# Altium schematic symbol library ConverterMurata.SchLib: 1 symbol
Pins are listed as number, name and electrical type; pins without a type are passive.

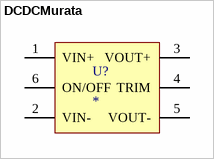
[diagram p0: symbol DCDCMurata]

## DCDCMurata
designator U?
Converter DC-DC Murata, high current; Digi-Key Part Number: 811-3139-1-ND
footprint DCDCMurata
pins: 1 VIN+, 2 VIN-, 3 VOUT+, 4 TRIM, 5 VOUT-, 6 ON/OFF